# Altium integrated library Inductor - Power.IntLib: 264 symbols (part 1 of 5)
Pins are listed as number, name and electrical type; pins without a type are passive.

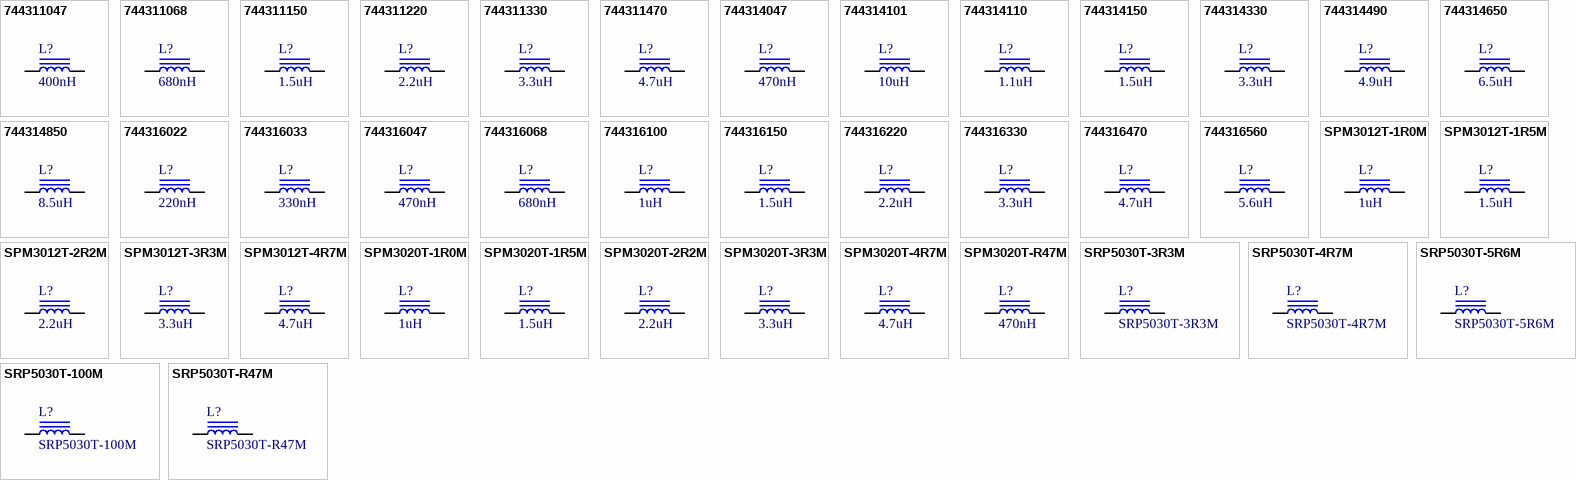
[diagram p0: symbols 744311047 to SRP5030T-R47M]

## 744311047
designator L?, comment 400nH
FIXED IND 400NH 19A 1.85 MOHM; Part Number: 744311047; Manufacturer: Wurth Electronics Inc; Type: Wirewound; Tolerance: 20%; Shielding: Shielded; Frequency - Self Resonant: 250MHz; Value: 400nH; PartId: 9686; Supplier 1: Digi-Key; Supplier Part Number 1: 732-3862-2-ND; ComponentLink1Description: Datasheet; ComponentLink1URL: http://katalog.we-online.de/pbs/datasheet/744311047.pdf; ComponentLink2Description: Digi-Key Listing; ComponentLink2URL: https://www.digikey.com/product-detail/en/744311047/732-3862-2-ND/3315070; Price: 2.85; Device Package: Nonstandard; Series: WE-HCI; Inductance: 400nH; Current Rating: 19A; DC Resistance (DCR): 1.85 mOhm; Q @ Freq: -; Operating Temperature: -40C ~ 150C
footprint WURTH WE-HCI 7040
pins: 1, 2

## 744311068
designator L?, comment 680nH
FIXED IND 680NH 17A 3.1 MOHM SMD; Part Number: 744311068; Manufacturer: Wurth Electronics Inc; Type: Wirewound; Tolerance: 20%; Shielding: Shielded; Frequency - Self Resonant: 105MHz; Value: 680nH; PartId: 9684; Supplier 1: Digi-Key; Supplier Part Number 1: 732-1149-2-ND; ComponentLink1Description: Datasheet; ComponentLink1URL: http://katalog.we-online.de/pbs/datasheet/744311068.pdf; ComponentLink2Description: Digi-Key Listing; ComponentLink2URL: https://www.digikey.com/product-detail/en/744311068/732-1149-2-ND/1638554; Price: 2.85; Device Package: Nonstandard; Series: WE-HCI; Inductance: 680nH; Current Rating: 17A; DC Resistance (DCR): 3.1 mOhm; Q @ Freq: -; Operating Temperature: -40C ~ 150C
footprint WURTH WE-HCI 7040
pins: 1, 2

## 744311150
designator L?, comment 1.5uH
FIXED IND 1.5UH 11A 6.6 MOHM SMD; Part Number: 744311150; Manufacturer: Wurth Electronics Inc; Type: Wirewound; Tolerance: 20%; Shielding: Shielded; Frequency - Self Resonant: 72MHz; Value: 1.5uH; PartId: 9687; Supplier 1: Digi-Key; Supplier Part Number 1: 732-1150-2-ND; ComponentLink1Description: Datasheet; ComponentLink1URL: http://katalog.we-online.de/pbs/datasheet/744311150.pdf; ComponentLink2Description: Digi-Key Listing; ComponentLink2URL: https://www.digikey.com/product-detail/en/744311150/732-1150-2-ND/1638555; Price: 2.85; Device Package: Nonstandard; Series: WE-HCI; Inductance: 1.5uH; Current Rating: 11A; DC Resistance (DCR): 6.6 mOhm; Q @ Freq: -; Operating Temperature: -40C ~ 150C
footprint WURTH WE-HCI 7040
pins: 1, 2

## 744311220
designator L?, comment 2.2uH
FIXED IND 2.2UH 9A 11.4 MOHM SMD; Part Number: 744311220; Manufacturer: Wurth Electronics Inc; Type: Wirewound; Tolerance: 20%; Shielding: Shielded; Frequency - Self Resonant: 52MHz; Value: 2.2uH; PartId: 9682; Supplier 1: Digi-Key; Supplier Part Number 1: 732-1151-2-ND; ComponentLink1Description: Datasheet; ComponentLink1URL: http://katalog.we-online.de/pbs/datasheet/744311220.pdf; ComponentLink2Description: Digi-Key Listing; ComponentLink2URL: https://www.digikey.com/product-detail/en/744311220/732-1151-2-ND/1638556; Price: 2.85; Device Package: Nonstandard; Series: WE-HCI; Inductance: 2.2uH; Current Rating: 9A; DC Resistance (DCR): 11.4 mOhm; Q @ Freq: -; Operating Temperature: -40C ~ 150C
footprint WURTH WE-HCI 7040
pins: 1, 2

## 744311330
designator L?, comment 3.3uH
FIXED IND 3.3UH 6.5A 17.2 MOHM; Part Number: 744311330; Manufacturer: Wurth Electronics Inc; Type: Wirewound; Tolerance: 20%; Shielding: Shielded; Frequency - Self Resonant: 43MHz; Value: 3.3uH; PartId: 9685; Supplier 1: Digi-Key; Supplier Part Number 1: 732-1152-2-ND; ComponentLink1Description: Datasheet; ComponentLink1URL: http://katalog.we-online.de/pbs/datasheet/744311330.pdf; ComponentLink2Description: Digi-Key Listing; ComponentLink2URL: https://www.digikey.com/product-detail/en/744311330/732-1152-2-ND/1638557; Price: 2.85; Device Package: Nonstandard; Series: WE-HCI; Inductance: 3.3uH; Current Rating: 6.5A; DC Resistance (DCR): 17.2 mOhm; Q @ Freq: -; Operating Temperature: -40C ~ 150C
footprint WURTH WE-HCI 7040
pins: 1, 2

## 744311470
designator L?, comment 4.7uH
FIXED IND 4.7UH 6A 19.5 MOHM SMD; Part Number: 744311470; Manufacturer: Wurth Electronics Inc; Type: Wirewound; Tolerance: 20%; Shielding: Shielded; Frequency - Self Resonant: 33MHz; Value: 4.7uH; PartId: 9683; Supplier 1: Digi-Key; Supplier Part Number 1: 732-1153-2-ND; ComponentLink1Description: Datasheet; ComponentLink1URL: http://katalog.we-online.de/pbs/datasheet/744311470.pdf; ComponentLink2Description: Digi-Key Listing; ComponentLink2URL: https://www.digikey.com/product-detail/en/744311470/732-1153-2-ND/1638558; Price: 2.85; Device Package: Nonstandard; Series: WE-HCI; Inductance: 4.7uH; Current Rating: 6A; DC Resistance (DCR): 19.5 mOhm; Q @ Freq: -; Operating Temperature: -40C ~ 150C
footprint WURTH WE-HCI 7040
pins: 1, 2

## 744314047
designator L?, comment 470nH
FIXED IND 470NH 18A 1.35 MOHM; Part Number: 744314047; Manufacturer: Wurth Electronics Inc; Type: Wirewound; Tolerance: 20%; Shielding: Shielded; Frequency - Self Resonant: 235MHz; Value: 470nH; PartId: 9680; Supplier 1: Digi-Key; Supplier Part Number 1: 732-1155-2-ND; ComponentLink1Description: Datasheet; ComponentLink1URL: http://katalog.we-online.de/pbs/datasheet/744314047.pdf; ComponentLink2Description: Digi-Key Listing; ComponentLink2URL: https://www.digikey.com/product-detail/en/744314047/732-1155-2-ND/1638560; Price: 2.85; Device Package: Nonstandard; Series: WE-HCI; Inductance: 470nH; Current Rating: 18A; DC Resistance (DCR): 1.35 mOhm; Q @ Freq: -; Operating Temperature: -40C ~ 150C
footprint WURTH WE-HCI 7050
pins: 1, 2

## 744314101
designator L?, comment 10uH
FIXED IND 10UH 3.5A 33 MOHM SMD; Part Number: 744314101; Manufacturer: Wurth Electronics Inc; Type: Wirewound; Tolerance: 20%; Shielding: Shielded; DC Resistance (DCR): 33 mOhm; Frequency - Self Resonant: 40MHz; Value: 10uH; PartId: 9676; Supplier 1: Digi-Key; Supplier Part Number 1: 732-2180-2-ND; ComponentLink1Description: Datasheet; ComponentLink1URL: http://katalog.we-online.de/pbs/datasheet/744314101.pdf; ComponentLink2Description: Digi-Key Listing; ComponentLink2URL: https://www.digikey.com/product-detail/en/744314101/732-2180-2-ND/2175596; Price: 2.85; Device Package: Nonstandard; Series: WE-HCI; Inductance: 10uH; Current Rating: 3.5A; Q @ Freq: -; Operating Temperature: -40C ~ 150C
footprint WURTH WE-HCI 7050
pins: 1, 2

## 744314110
designator L?, comment 1.1uH
FIXED IND 1.1UH 15A 3.15 MOHM; Part Number: 744314110; Manufacturer: Wurth Electronics Inc; Type: Wirewound; Tolerance: 20%; Shielding: Shielded; Frequency - Self Resonant: 135MHz; Value: 1.1uH; PartId: 9677; Supplier 1: Digi-Key; Supplier Part Number 1: 732-1157-2-ND; ComponentLink1Description: Datasheet; ComponentLink1URL: http://katalog.we-online.de/pbs/datasheet/744314110.pdf; ComponentLink2Description: Digi-Key Listing; ComponentLink2URL: https://www.digikey.com/product-detail/en/744314110/732-1157-2-ND/1638562; Price: 2.85; Device Package: Nonstandard; Series: WE-HCI; Inductance: 1.1uH; Current Rating: 15A; DC Resistance (DCR): 3.15 mOhm; Q @ Freq: -; Operating Temperature: -40C ~ 150C
footprint WURTH WE-HCI 7050
pins: 1, 2

## 744314150
designator L?, comment 1.5uH
FIXED IND 1.5UH 13A 4.3 MOHM SMD; Part Number: 744314150; Manufacturer: Wurth Electronics Inc; Type: Wirewound; Tolerance: 20%; Shielding: Shielded; Frequency - Self Resonant: 110MHz; Value: 1.5uH; PartId: 9678; Supplier 1: Digi-Key; Supplier Part Number 1: 732-1158-2-ND; ComponentLink1Description: Datasheet; ComponentLink1URL: http://katalog.we-online.de/pbs/datasheet/744314150.pdf; ComponentLink2Description: Digi-Key Listing; ComponentLink2URL: https://www.digikey.com/product-detail/en/744314150/732-1158-2-ND/1638563; Price: 2.85; Device Package: Nonstandard; Series: WE-HCI; Inductance: 1.5uH; Current Rating: 13A; DC Resistance (DCR): 4.3 mOhm; Q @ Freq: -; Operating Temperature: -40C ~ 150C
footprint WURTH WE-HCI 7050
pins: 1, 2

## 744314330
designator L?, comment 3.3uH
FIXED IND 3.3UH 9A 9 MOHM SMD; Part Number: 744314330; Manufacturer: Wurth Electronics Inc; Type: Wirewound; Tolerance: 20%; Shielding: Shielded; DC Resistance (DCR): 9 mOhm; Frequency - Self Resonant: 65MHz; Value: 3.3uH; PartId: 9675; Supplier 1: Digi-Key; Supplier Part Number 1: 732-1160-2-ND; ComponentLink1Description: Datasheet; ComponentLink1URL: http://katalog.we-online.de/pbs/datasheet/744314330.pdf; ComponentLink2Description: Digi-Key Listing; ComponentLink2URL: https://www.digikey.com/product-detail/en/744314330/732-1160-2-ND/1638565; Price: 2.85; Device Package: Nonstandard; Series: WE-HCI; Inductance: 3.3uH; Current Rating: 9A; Q @ Freq: -; Operating Temperature: -40C ~ 150C
footprint WURTH WE-HCI 7050
pins: 1, 2

## 744314490
designator L?, comment 4.9uH
FIXED IND 4.9UH 6.5A 14.5 MOHM; Part Number: 744314490; Manufacturer: Wurth Electronics Inc; Type: Wirewound; Tolerance: 20%; Shielding: Shielded; Frequency - Self Resonant: 56MHz; Value: 4.9uH; PartId: 9681; Supplier 1: Digi-Key; Supplier Part Number 1: 732-1161-2-ND; ComponentLink1Description: Datasheet; ComponentLink1URL: http://katalog.we-online.de/pbs/datasheet/744314490.pdf; ComponentLink2Description: Digi-Key Listing; ComponentLink2URL: https://www.digikey.com/product-detail/en/744314490/732-1161-2-ND/1638566; Price: 2.85; Device Package: Nonstandard; Series: WE-HCI; Inductance: 4.9uH; Current Rating: 6.5A; DC Resistance (DCR): 14.5 mOhm; Q @ Freq: -; Operating Temperature: -40C ~ 150C
footprint WURTH WE-HCI 7050
pins: 1, 2

## 744314650
designator L?, comment 6.5uH
FIXED IND 6.5UH 6A 21.5 MOHM SMD; Part Number: 744314650; Manufacturer: Wurth Electronics Inc; Type: Wirewound; Tolerance: 20%; Shielding: Shielded; Frequency - Self Resonant: 50MHz; Value: 6.5uH; PartId: 9674; Supplier 1: Digi-Key; Supplier Part Number 1: 732-1162-2-ND; ComponentLink1Description: Datasheet; ComponentLink1URL: http://katalog.we-online.de/pbs/datasheet/744314650.pdf; ComponentLink2Description: Digi-Key Listing; ComponentLink2URL: https://www.digikey.com/product-detail/en/744314650/732-1162-2-ND/1638567; Price: 2.85; Device Package: Nonstandard; Series: WE-HCI; Inductance: 6.5uH; Current Rating: 6A; DC Resistance (DCR): 21.5 mOhm; Q @ Freq: -; Operating Temperature: -40C ~ 150C
footprint WURTH WE-HCI 7050
pins: 1, 2

## 744314850
designator L?, comment 8.5uH
FIXED IND 8.5UH 4A 32.5 MOHM SMD; Part Number: 744314850; Manufacturer: Wurth Electronics Inc; Type: Wirewound; Tolerance: 20%; Shielding: Shielded; Frequency - Self Resonant: 44MHz; Value: 8.5uH; PartId: 9679; Supplier 1: Digi-Key; Supplier Part Number 1: 732-2182-2-ND; ComponentLink1Description: Datasheet; ComponentLink1URL: http://katalog.we-online.de/pbs/datasheet/744314850.pdf; ComponentLink2Description: Digi-Key Listing; ComponentLink2URL: https://www.digikey.com/product-detail/en/744314850/732-2182-2-ND/2175598; Price: 2.85; Device Package: Nonstandard; Series: WE-HCI; Inductance: 8.5uH; Current Rating: 4A; DC Resistance (DCR): 32.5 mOhm; Q @ Freq: -; Operating Temperature: -40C ~ 150C
footprint WURTH WE-HCI 7050
pins: 1, 2

## 744316022
designator L?, comment 220nH
FIXED IND 220NH 20A 1.25 MOHM; Part Number: 744316022; Manufacturer: Wurth Electronics Inc; Type: Wirewound; Tolerance: 20%; Shielding: Shielded; Frequency - Self Resonant: 507MHz; Value: 220nH; PartId: 9670; Supplier 1: Digi-Key; Supplier Part Number 1: 732-6171-2-ND; ComponentLink1Description: Datasheet; ComponentLink1URL: http://katalog.we-online.de/pbs/datasheet/744316022.pdf; ComponentLink2Description: Digi-Key Listing; ComponentLink2URL: https://www.digikey.com/product-detail/en/744316022/732-6171-2-ND/5051004; Price: 1.5; Device Package: 2-SMD; Series: WE-HCI; Inductance: 220nH; Current Rating: 20A; DC Resistance (DCR): 1.25 mOhm; Q @ Freq: -; Operating Temperature: -40C ~ 150C
footprint WURTH 5040
pins: 1, 2

## 744316033
designator L?, comment 330nH
FIXED IND 330NH 18.5A 1.75 MOHM; Part Number: 744316033; Manufacturer: Wurth Electronics Inc; Type: Wirewound; Tolerance: 20%; Shielding: Shielded; Frequency - Self Resonant: 402MHz; Value: 330nH; PartId: 9671; Supplier 1: Digi-Key; Supplier Part Number 1: 732-6173-2-ND; ComponentLink1Description: Datasheet; ComponentLink1URL: http://katalog.we-online.de/pbs/datasheet/744316033.pdf; ComponentLink2Description: Digi-Key Listing; ComponentLink2URL: https://www.digikey.com/product-detail/en/744316033/732-6173-2-ND/5051006; Price: 1.5; Device Package: 2-SMD; Series: WE-HCI; Inductance: 330nH; Current Rating: 18.5A; DC Resistance (DCR): 1.75 mOhm; Q @ Freq: -; Operating Temperature: -40C ~ 150C
footprint WURTH 5040
pins: 1, 2

## 744316047
designator L?, comment 470nH
FIXED IND 470NH 15A 2.75 MOHM; Part Number: 744316047; Manufacturer: Wurth Electronics Inc; Type: Wirewound; Tolerance: 20%; Shielding: Shielded; Frequency - Self Resonant: 280MHz; Value: 470nH; PartId: 9672; Supplier 1: Digi-Key; Supplier Part Number 1: 732-6174-2-ND; ComponentLink1Description: Datasheet; ComponentLink1URL: http://katalog.we-online.de/pbs/datasheet/744316047.pdf; ComponentLink2Description: Digi-Key Listing; ComponentLink2URL: https://www.digikey.com/product-detail/en/744316047/732-6174-2-ND/5051007; Price: 1.5; Device Package: 2-SMD; Series: WE-HCI; Inductance: 470nH; Current Rating: 15A; DC Resistance (DCR): 2.75 mOhm; Q @ Freq: -; Operating Temperature: -40C ~ 150C
footprint WURTH 5040
pins: 1, 2

## 744316068
designator L?, comment 680nH
FIXED IND 680NH 12.75A 4 MOHM; Part Number: 744316068; Manufacturer: Wurth Electronics Inc; Type: Wirewound; Tolerance: 20%; Shielding: Shielded; DC Resistance (DCR): 4 mOhm; Frequency - Self Resonant: 253MHz; Value: 680nH; PartId: 9673; Supplier 1: Digi-Key; Supplier Part Number 1: 732-6175-2-ND; ComponentLink1Description: Datasheet; ComponentLink1URL: http://katalog.we-online.de/pbs/datasheet/744316068.pdf; ComponentLink2Description: Digi-Key Listing; ComponentLink2URL: https://www.digikey.com/product-detail/en/744316068/732-6175-2-ND/5051008; Price: 1.5; Device Package: 2-SMD; Series: WE-HCI; Inductance: 680nH; Current Rating: 12.75A; Q @ Freq: -; Operating Temperature: -40C ~ 150C
footprint WURTH 5040
pins: 1, 2

## 744316100
designator L?, comment 1uH
FIXED IND 1UH 11.5A 4.75 MOHM; Part Number: 744316100; Manufacturer: Wurth Electronics Inc; Type: Wirewound; Tolerance: 20%; Shielding: Shielded; Frequency - Self Resonant: 158MHz; Value: 1uH; PartId: 9666; Supplier 1: Digi-Key; Supplier Part Number 1: 732-6176-2-ND; ComponentLink1Description: Datasheet; ComponentLink1URL: http://katalog.we-online.de/pbs/datasheet/744316100.pdf; ComponentLink2Description: Digi-Key Listing; ComponentLink2URL: https://www.digikey.com/product-detail/en/744316100/732-6176-2-ND/5051009; Price: 1.5; Device Package: 2-SMD; Series: WE-HCI; Inductance: 1uH; Current Rating: 11.5A; DC Resistance (DCR): 4.75 mOhm; Q @ Freq: -; Operating Temperature: -40C ~ 150C
footprint WURTH 5040
pins: 1, 2

## 744316150
designator L?, comment 1.5uH
FIXED IND 1.5UH 9A 8.15 MOHM SMD; Part Number: 744316150; Manufacturer: Wurth Electronics Inc; Type: Wirewound; Tolerance: 20%; Shielding: Shielded; Frequency - Self Resonant: 110MHz; Value: 1.5uH; PartId: 9667; Supplier 1: Digi-Key; Supplier Part Number 1: 732-6178-2-ND; ComponentLink1Description: Datasheet; ComponentLink1URL: http://katalog.we-online.de/pbs/datasheet/744316150.pdf; ComponentLink2Description: Digi-Key Listing; ComponentLink2URL: https://www.digikey.com/product-detail/en/744316150/732-6178-2-ND/5051011; Price: 1.5; Device Package: 2-SMD; Series: WE-HCI; Inductance: 1.5uH; Current Rating: 9A; DC Resistance (DCR): 8.15 mOhm; Q @ Freq: -; Operating Temperature: -40C ~ 150C
footprint WURTH 5040
pins: 1, 2

## 744316220
designator L?, comment 2.2uH
FIXED IND 2.2UH 7.5A 11.3 MOHM; Part Number: 744316220; Manufacturer: Wurth Electronics Inc; Type: Wirewound; Tolerance: 20%; Shielding: Shielded; Frequency - Self Resonant: 108MHz; Value: 2.2uH; PartId: 9664; Supplier 1: Digi-Key; Supplier Part Number 1: 732-6179-2-ND; ComponentLink1Description: Datasheet; ComponentLink1URL: http://katalog.we-online.de/pbs/datasheet/744316220.pdf; ComponentLink2Description: Digi-Key Listing; ComponentLink2URL: https://www.digikey.com/product-detail/en/744316220/732-6179-2-ND/5051012; Price: 1.5; Device Package: 2-SMD; Series: WE-HCI; Inductance: 2.2uH; Current Rating: 7.5A; DC Resistance (DCR): 11.3 mOhm; Q @ Freq: -; Operating Temperature: -40C ~ 150C
footprint WURTH 5040
pins: 1, 2

## 744316330
designator L?, comment 3.3uH
FIXED IND 3.3UH 5.75A 18.5 MOHM; Part Number: 744316330; Manufacturer: Wurth Electronics Inc; Type: Wirewound; Tolerance: 20%; Shielding: Shielded; Frequency - Self Resonant: 66MHz; Value: 3.3uH; PartId: 9668; Supplier 1: Digi-Key; Supplier Part Number 1: 732-6180-2-ND; ComponentLink1Description: Datasheet; ComponentLink1URL: http://katalog.we-online.de/pbs/datasheet/744316330.pdf; ComponentLink2Description: Digi-Key Listing; ComponentLink2URL: https://www.digikey.com/product-detail/en/744316330/732-6180-2-ND/5051013; Price: 1.5; Device Package: 2-SMD; Series: WE-HCI; Inductance: 3.3uH; Current Rating: 5.75A; DC Resistance (DCR): 18.5 mOhm; Q @ Freq: -; Operating Temperature: -40C ~ 150C
footprint WURTH 5040
pins: 1, 2

## 744316470
designator L?, comment 4.7uH
FIXED IND 4.7UH 4.6A 24.5 MOHM; Part Number: 744316470; Manufacturer: Wurth Electronics Inc; Type: Wirewound; Tolerance: 20%; Shielding: Shielded; DC Resistance (DCR): 24.5 mOhm Max; Frequency - Self Resonant: 57MHz; Value: 4.7uH; PartId: 9665; Supplier 1: Digi-Key; Supplier Part Number 1: 732-6182-2-ND; ComponentLink1Description: Datasheet; ComponentLink1URL: http://katalog.we-online.de/pbs/datasheet/744316470.pdf; ComponentLink2Description: Digi-Key Listing; ComponentLink2URL: https://www.digikey.com/product-detail/en/744316470/732-6182-2-ND/5051015; Price: 1.5; Device Package: 2-SMD; Series: WE-HCI; Inductance: 4.7uH; Current Rating: 4.6A; Q @ Freq: -; Operating Temperature: -40C ~ 150C
footprint WURTH 5040
pins: 1, 2

## 744316560
designator L?, comment 5.6uH
FIXED IND 5.6UH 4.5A 28.5 MOHM; Part Number: 744316560; Manufacturer: Wurth Electronics Inc; Type: Wirewound; Tolerance: 20%; Shielding: Shielded; Frequency - Self Resonant: 48MHz; Value: 5.6uH; PartId: 9669; Supplier 1: Digi-Key; Supplier Part Number 1: 732-6183-2-ND; ComponentLink1Description: Datasheet; ComponentLink1URL: http://katalog.we-online.de/pbs/datasheet/744316560.pdf; ComponentLink2Description: Digi-Key Listing; ComponentLink2URL: https://www.digikey.com/product-detail/en/744316560/732-6183-2-ND/5051016; Price: 1.5; Device Package: 2-SMD; Series: WE-HCI; Inductance: 5.6uH; Current Rating: 4.5A; DC Resistance (DCR): 28.5 mOhm; Q @ Freq: -; Operating Temperature: -40C ~ 150C
footprint WURTH 5040
pins: 1, 2

## SPM3012T-1R0M
designator L?, comment 1uH
FIXED IND 1UH 2.8A 65 MOHM SMD; Part Number: SPM3012T-1R0M; Manufacturer: TDK Corporation; Type: Wirewound; Tolerance: 20%; Shielding: Shielded; DC Resistance (DCR): 65 mOhm Max; Value: 1uH; PartId: 9590; Supplier 1: Digi-Key; Supplier Part Number 1: 445-8723-2-ND; ComponentLink1Description: Datasheet; ComponentLink1URL: https://product.tdk.com/info/en/catalog/datasheets/inductor_commercial_power_spm3012_en.pdf; ComponentLink2Description: Digi-Key Listing; ComponentLink2URL: https://www.digikey.com/product-detail/en/SPM3012T-1R0M/445-8723-2-ND/3083271; Price: 0.616; Device Package: Nonstandard; Series: SPM; Inductance: 1uH; Current Rating: 2.8A; Q @ Freq: -; Frequency - Self Resonant: -; Operating Temperature: -40C ~ 125C
footprint TDK SPM3012
pins: 1, 2

## SPM3012T-1R5M
designator L?, comment 1.5uH
FIXED IND 1.5UH 2.5A 90 MOHM SMD; Part Number: SPM3012T-1R5M; Manufacturer: TDK Corporation; Type: Wirewound; Tolerance: 20%; Shielding: Shielded; DC Resistance (DCR): 90 mOhm Max; Value: 1.5uH; PartId: 9593; Supplier 1: Digi-Key; Supplier Part Number 1: 445-8724-2-ND; ComponentLink1Description: Datasheet; ComponentLink1URL: https://product.tdk.com/info/en/catalog/datasheets/inductor_commercial_power_spm3012_en.pdf; ComponentLink2Description: Digi-Key Listing; ComponentLink2URL: https://www.digikey.com/product-detail/en/SPM3012T-1R5M/445-8724-2-ND/3083272; Price: 0.616; Device Package: Nonstandard; Series: SPM; Inductance: 1.5uH; Current Rating: 2.5A; Q @ Freq: -; Frequency - Self Resonant: -; Operating Temperature: -40C ~ 125C
footprint TDK SPM3012
pins: 1, 2

## SPM3012T-2R2M
designator L?, comment 2.2uH
FIXED IND 2.2UH 2.2A 115 MOHM; Part Number: SPM3012T-2R2M; Manufacturer: TDK Corporation; Type: Wirewound; Tolerance: 20%; Shielding: Shielded; DC Resistance (DCR): 115 mOhm Max; Value: 2.2uH; PartId: 9591; Supplier 1: Digi-Key; Supplier Part Number 1: 445-8725-2-ND; ComponentLink1Description: Datasheet; ComponentLink1URL: https://product.tdk.com/info/en/catalog/datasheets/inductor_commercial_power_spm3012_en.pdf; ComponentLink2Description: Digi-Key Listing; ComponentLink2URL: https://www.digikey.com/product-detail/en/SPM3012T-2R2M/445-8725-2-ND/3083273; Price: 0.616; Device Package: Nonstandard; Series: SPM; Inductance: 2.2uH; Current Rating: 2.2A; Q @ Freq: -; Frequency - Self Resonant: -; Operating Temperature: -40C ~ 125C
footprint TDK SPM3012
pins: 1, 2

## SPM3012T-3R3M
designator L?, comment 3.3uH
FIXED IND 3.3UH 1.5A 210 MOHM; Part Number: SPM3012T-3R3M; Manufacturer: TDK Corporation; Type: Wirewound; Tolerance: 20%; Shielding: Shielded; DC Resistance (DCR): 210 mOhm Max; Value: 3.3uH; PartId: 9594; Supplier 1: Digi-Key; Supplier Part Number 1: 445-8726-2-ND; ComponentLink1Description: Datasheet; ComponentLink1URL: https://product.tdk.com/info/en/catalog/datasheets/inductor_commercial_power_spm3012_en.pdf; ComponentLink2Description: Digi-Key Listing; ComponentLink2URL: https://www.digikey.com/product-detail/en/SPM3012T-3R3M/445-8726-2-ND/3083274; Price: 0.616; Device Package: Nonstandard; Series: SPM; Inductance: 3.3uH; Current Rating: 1.5A; Q @ Freq: -; Frequency - Self Resonant: -; Operating Temperature: -40C ~ 125C
footprint TDK SPM3012
pins: 1, 2

## SPM3012T-4R7M
designator L?, comment 4.7uH
FIXED IND 4.7UH 1.3A 270 MOHM; Part Number: SPM3012T-4R7M; Manufacturer: TDK Corporation; Type: Wirewound; Tolerance: 20%; Shielding: Shielded; DC Resistance (DCR): 270 mOhm Max; Value: 4.7uH; PartId: 9592; Supplier 1: Digi-Key; Supplier Part Number 1: 445-8932-2-ND; ComponentLink1Description: Datasheet; ComponentLink1URL: https://product.tdk.com/info/en/catalog/datasheets/inductor_commercial_power_spm3012_en.pdf; ComponentLink2Description: Digi-Key Listing; ComponentLink2URL: https://www.digikey.com/product-detail/en/SPM3012T-4R7M/445-8932-2-ND/3641271; Price: 0.616; Device Package: Nonstandard; Series: SPM; Inductance: 4.7uH; Current Rating: 1.3A; Q @ Freq: -; Frequency - Self Resonant: -; Operating Temperature: -40C ~ 125C
footprint TDK SPM3012
pins: 1, 2

## SPM3020T-1R0M
designator L?, comment 1uH
FIXED IND 1UH 3.8A 42.2 MOHM SMD; Part Number: SPM3020T-1R0M; Manufacturer: TDK Corporation; Type: Wirewound; Tolerance: 20%; Shielding: Shielded; DC Resistance (DCR): 42.2 mOhm Max; Value: 1uH; PartId: 9586; Supplier 1: Digi-Key; Supplier Part Number 1: 445-172358-2-ND; ComponentLink1Description: Datasheet; ComponentLink1URL: https://product.tdk.com/info/en/catalog/datasheets/inductor_commercial_power_spm3020_en.pdf; ComponentLink2Description: Digi-Key Listing; ComponentLink2URL: https://www.digikey.com/product-detail/en/SPM3020T-1R0M/445-172358-2-ND/4917939; Price: 0.6025; Device Package: Nonstandard; Series: SPM; Inductance: 1uH; Current Rating: 3.8A; Q @ Freq: -; Frequency - Self Resonant: -; Operating Temperature: -40C ~ 125C
footprint TDK SPM3020-LR
pins: 1, 2

## SPM3020T-1R5M
designator L?, comment 1.5uH
FIXED IND 1.5UH 3.4A 64.8 MOHM; Part Number: SPM3020T-1R5M; Manufacturer: TDK Corporation; Type: Wirewound; Tolerance: 20%; Shielding: Shielded; DC Resistance (DCR): 64.8 mOhm Max; Value: 1.5uH; PartId: 9587; Supplier 1: Digi-Key; Supplier Part Number 1: 445-172359-2-ND; ComponentLink1Description: Datasheet; ComponentLink1URL: https://product.tdk.com/info/en/catalog/datasheets/inductor_commercial_power_spm3020_en.pdf; ComponentLink2Description: Digi-Key Listing; ComponentLink2URL: https://www.digikey.com/product-detail/en/SPM3020T-1R5M/445-172359-2-ND/4917940; Price: 0.6025; Device Package: Nonstandard; Series: SPM; Inductance: 1.5uH; Current Rating: 3.4A; Q @ Freq: -; Frequency - Self Resonant: -; Operating Temperature: -40C ~ 125C
footprint TDK SPM3020-LR
pins: 1, 2

## SPM3020T-2R2M
designator L?, comment 2.2uH
FIXED IND 2.2UH 2.8A 90 MOHM SMD; Part Number: SPM3020T-2R2M; Manufacturer: TDK Corporation; Type: Wirewound; Tolerance: 20%; Shielding: Shielded; DC Resistance (DCR): 90 mOhm Max; Value: 2.2uH; PartId: 9584; Supplier 1: Digi-Key; Supplier Part Number 1: 445-172360-2-ND; ComponentLink1Description: Datasheet; ComponentLink1URL: https://product.tdk.com/info/en/catalog/datasheets/inductor_commercial_power_spm3020_en.pdf; ComponentLink2Description: Digi-Key Listing; ComponentLink2URL: https://www.digikey.com/product-detail/en/SPM3020T-2R2M/445-172360-2-ND/4917941; Price: 0.6025; Device Package: Nonstandard; Series: SPM; Inductance: 2.2uH; Current Rating: 2.8A; Q @ Freq: -; Frequency - Self Resonant: -; Operating Temperature: -40C ~ 125C
footprint TDK SPM3020-LR
pins: 1, 2

## SPM3020T-3R3M
designator L?, comment 3.3uH
FIXED IND 3.3UH 2.2A 127.4 MOHM; Part Number: SPM3020T-3R3M; Manufacturer: TDK Corporation; Type: Wirewound; Tolerance: 20%; Shielding: Shielded; DC Resistance (DCR): 127.4 mOhm Max; Value: 3.3uH; PartId: 9588; Supplier 1: Digi-Key; Supplier Part Number 1: 445-172361-2-ND; ComponentLink1Description: Datasheet; ComponentLink1URL: https://product.tdk.com/info/en/catalog/datasheets/inductor_commercial_power_spm3020_en.pdf; ComponentLink2Description: Digi-Key Listing; ComponentLink2URL: https://www.digikey.com/product-detail/en/SPM3020T-3R3M/445-172361-2-ND/4917942; Price: 0.6025; Device Package: Nonstandard; Series: SPM; Inductance: 3.3uH; Current Rating: 2.2A; Q @ Freq: -; Frequency - Self Resonant: -; Operating Temperature: -40C ~ 125C
footprint TDK SPM3020-LR
pins: 1, 2

## SPM3020T-4R7M
designator L?, comment 4.7uH
FIXED IND 4.7UH 1.9A 173 MOHM; Part Number: SPM3020T-4R7M; Manufacturer: TDK Corporation; Type: Wirewound; Tolerance: 20%; Shielding: Shielded; DC Resistance (DCR): 173 mOhm Max; Value: 4.7uH; PartId: 9585; Supplier 1: Digi-Key; Supplier Part Number 1: 445-172362-2-ND; ComponentLink1Description: Datasheet; ComponentLink1URL: https://product.tdk.com/info/en/catalog/datasheets/inductor_commercial_power_spm3020_en.pdf; ComponentLink2Description: Digi-Key Listing; ComponentLink2URL: https://www.digikey.com/product-detail/en/SPM3020T-4R7M/445-172362-2-ND/4917943; Price: 0.6025; Device Package: Nonstandard; Series: SPM; Inductance: 4.7uH; Current Rating: 1.9A; Q @ Freq: -; Frequency - Self Resonant: -; Operating Temperature: -40C ~ 125C
footprint TDK SPM3020-LR
pins: 1, 2

## SPM3020T-R47M
designator L?, comment 470nH
FIXED IND 470NH 4.8A 28.9 MOHM; Part Number: SPM3020T-R47M; Manufacturer: TDK Corporation; Type: Wirewound; Tolerance: 20%; Shielding: Shielded; DC Resistance (DCR): 28.9 mOhm Max; Value: 470nH; PartId: 9589; Supplier 1: Digi-Key; Supplier Part Number 1: 445-172357-2-ND; ComponentLink1Description: Datasheet; ComponentLink1URL: https://product.tdk.com/info/en/catalog/datasheets/inductor_commercial_power_spm3020_en.pdf; ComponentLink2Description: Digi-Key Listing; ComponentLink2URL: https://www.digikey.com/product-detail/en/SPM3020T-R47M/445-172357-2-ND/4917944; Price: 0.6025; Device Package: Nonstandard; Series: SPM; Inductance: 470nH; Current Rating: 4.8A; Q @ Freq: -; Frequency - Self Resonant: -; Operating Temperature: -40C ~ 125C
footprint TDK SPM3020-LR
pins: 1, 2

## SRP5030T-3R3M
designator L?
FIXED IND 3.3UH 5A 38 MOHM SMD; Manufacturer: Bourns Inc.; Type: Wirewound; Material - Core: Powdered Iron; Tolerance: 20%; Current - Saturation: 8A; Shielding: Shielded; DC Resistance (DCR): 38 mOhm Max; Value: 3.3uH; Part Number: SRP5030T-3R3M; PartId: 16473; Supplier 1: Digi-Key; Supplier Part Number 1: SRP5030T-3R3MTR-ND; ComponentLink1Description: Datasheet; ComponentLink1URL: http://www.bourns.com/docs/Product-Datasheets/SRP5030T.pdf; ComponentLink2Description: Digi-Key Listing; ComponentLink2URL: https://www.digikey.com/product-detail/en/bourns-inc/SRP5030T-3R3M/SRP5030T-3R3MTR-ND/3986083; Price: 0.5453; Device Package: Nonstandard; Series: SRP5030T; Inductance: 3.3uH; Current Rating: 5A; Operating Temperature: -40C ~ 125C
footprint BOURNS SRP5030T
pins: 1, 2

## SRP5030T-4R7M
designator L?
FIXED IND 4.7UH 4.6A 53 MOHM SMD; Manufacturer: Bourns Inc.; Type: Wirewound; Material - Core: Powdered Iron; Tolerance: 20%; Current - Saturation: 6A; Shielding: Shielded; DC Resistance (DCR): 53 mOhm Max; Value: 4.7uH; Part Number: SRP5030T-4R7M; PartId: 16474; Supplier 1: Digi-Key; Supplier Part Number 1: SRP5030T-4R7MTR-ND; ComponentLink1Description: Datasheet; ComponentLink1URL: http://www.bourns.com/docs/Product-Datasheets/SRP5030T.pdf; ComponentLink2Description: Digi-Key Listing; ComponentLink2URL: https://www.digikey.com/product-detail/en/bourns-inc/SRP5030T-4R7M/SRP5030T-4R7MTR-ND/3986084; Price: 0.5453; Device Package: Nonstandard; Series: SRP5030T; Inductance: 4.7uH; Current Rating: 4.6A; Operating Temperature: -40C ~ 125C
footprint BOURNS SRP5030T
pins: 1, 2

## SRP5030T-5R6M
designator L?
FIXED IND 5.6UH 4.25A 63 MOHM; Manufacturer: Bourns Inc.; Type: Wirewound; Material - Core: Powdered Iron; Tolerance: 20%; Current - Saturation: 4.5A; Shielding: Shielded; DC Resistance (DCR): 63 mOhm Max; Value: 5.6uH; Part Number: SRP5030T-5R6M; PartId: 16475; Supplier 1: Digi-Key; Supplier Part Number 1: SRP5030T-5R6MTR-ND; ComponentLink1Description: Datasheet; ComponentLink1URL: http://www.bourns.com/docs/Product-Datasheets/SRP5030T.pdf; ComponentLink2Description: Digi-Key Listing; ComponentLink2URL: https://www.digikey.com/product-detail/en/bourns-inc/SRP5030T-5R6M/SRP5030T-5R6MTR-ND/3986085; Price: 0.5453; Device Package: Nonstandard; Series: SRP5030T; Inductance: 5.6uH; Current Rating: 4.25A; Operating Temperature: -40C ~ 125C
footprint BOURNS SRP5030T
pins: 1, 2

## SRP5030T-100M
designator L?
FIXED IND 10UH 2.75A 128 MOHM; Manufacturer: Bourns Inc.; Type: Wirewound; Material - Core: Powdered Iron; Tolerance: 20%; Current - Saturation: 3.5A; Shielding: Shielded; DC Resistance (DCR): 128 mOhm Max; Value: 10uH; Part Number: SRP5030T-100M; PartId: 16472; Supplier 1: Digi-Key; Supplier Part Number 1: SRP5030T-100MTR-ND; ComponentLink1Description: Datasheet; ComponentLink1URL: http://www.bourns.com/docs/Product-Datasheets/SRP5030T.pdf; ComponentLink2Description: Digi-Key Listing; ComponentLink2URL: https://www.digikey.com/product-detail/en/bourns-inc/SRP5030T-100M/SRP5030T-100MTR-ND/3986087; Price: 0.5453; Device Package: Nonstandard; Series: SRP5030T; Inductance: 10uH; Current Rating: 2.75A; Operating Temperature: -40C ~ 125C
footprint BOURNS SRP5030T
pins: 1, 2

## SRP5030T-R47M
designator L?
FIXED IND 470NH 12A 7.4 MOHM SMD; Manufacturer: Bourns Inc.; Type: Wirewound; Material - Core: Powdered Iron; Tolerance: 20%; Current - Saturation: 16A; Shielding: Shielded; DC Resistance (DCR): 7.4 mOhm Max; Value: 470nH; Part Number: SRP5030T-R47M; PartId: 16476; Supplier 1: Digi-Key; Supplier Part Number 1: SRP5030T-R47MTR-ND; ComponentLink1Description: Datasheet; ComponentLink1URL: http://www.bourns.com/docs/Product-Datasheets/SRP5030T.pdf; ComponentLink2Description: Digi-Key Listing; ComponentLink2URL: https://www.digikey.com/product-detail/en/bourns-inc/SRP5030T-R47M/SRP5030T-R47MTR-ND/3986077; Price: 0.5453; Device Package: Nonstandard; Series: SRP5030T; Inductance: 470nH; Current Rating: 12A; Operating Temperature: -40C ~ 125C
footprint BOURNS SRP5030T
pins: 1, 2

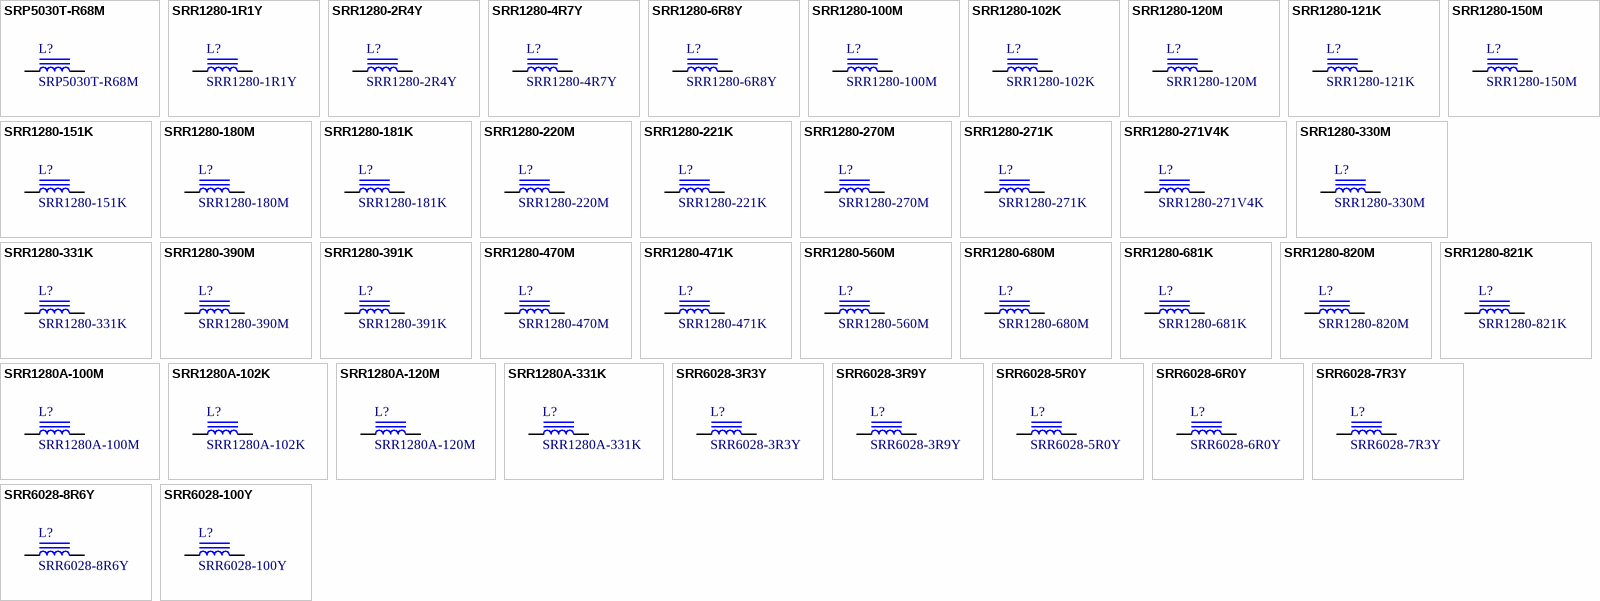
[diagram p1: symbols SRP5030T-R68M to SRR6028-100Y]

## SRP5030T-R68M
designator L?
FIXED IND 680NH 8.5A 12 MOHM SMD; Manufacturer: Bourns Inc.; Type: Wirewound; Material - Core: Powdered Iron; Tolerance: 20%; Current - Saturation: 14A; Shielding: Shielded; DC Resistance (DCR): 12 mOhm Max; Value: 680nH; Part Number: SRP5030T-R68M; PartId: 16477; Supplier 1: Digi-Key; Supplier Part Number 1: SRP5030T-R68MTR-ND; ComponentLink1Description: Datasheet; ComponentLink1URL: http://www.bourns.com/docs/Product-Datasheets/SRP5030T.pdf; ComponentLink2Description: Digi-Key Listing; ComponentLink2URL: https://www.digikey.com/product-detail/en/bourns-inc/SRP5030T-R68M/SRP5030T-R68MTR-ND/3986078; Price: 0.5453; Device Package: Nonstandard; Series: SRP5030T; Inductance: 680nH; Current Rating: 8.5A; Operating Temperature: -40C ~ 125C
footprint BOURNS SRP5030T
pins: 1, 2

## SRR1280-1R1Y
designator L?
FIXED IND 1.1UH 10.2A 6.5 MOHM; Manufacturer: Bourns Inc.; Type: Wirewound; Material - Core: Ferrite; Tolerance: 30%; Current - Saturation: 14A; Shielding: Shielded; DC Resistance (DCR): 6.5 mOhm Max; Q @ Freq: 26 @ 7.96MHz; Frequency - Self Resonant: 85MHz; Value: 1.1uH; Part Number: SRR1280-1R1Y; PartId: 15728; Supplier 1: Digi-Key; Supplier Part Number 1: SRR1280-1R1YTR-ND; ComponentLink1Description: Datasheet; ComponentLink1URL: http://www.bourns.com/docs/Product-Datasheets/SRR1280.pdf; ComponentLink2Description: Digi-Key Listing; ComponentLink2URL: https://www.digikey.com/product-detail/en/bourns-inc/SRR1280-1R1Y/SRR1280-1R1YTR-ND/2562406; Price: 0.7266; Device Package: Nonstandard; Series: SRR1280; Inductance: 1.1uH; Current Rating: 10.2A; Operating Temperature: -40C ~ 125C
footprint BOURNS SRR1280
pins: 1, 2

## SRR1280-2R4Y
designator L?
FIXED IND 2.4UH 9.2A 10 MOHM SMD; Manufacturer: Bourns Inc.; Type: Wirewound; Material - Core: Ferrite; Tolerance: 30%; Current - Saturation: 10.5A; Shielding: Shielded; DC Resistance (DCR): 10 mOhm Max; Q @ Freq: 20 @ 7.96MHz; Frequency - Self Resonant: 45MHz; Value: 2.4uH; Part Number: SRR1280-2R4Y; PartId: 15729; Supplier 1: Digi-Key; Supplier Part Number 1: SRR1280-2R4YTR-ND; ComponentLink1Description: Datasheet; ComponentLink1URL: http://www.bourns.com/docs/Product-Datasheets/SRR1280.pdf; ComponentLink2Description: Digi-Key Listing; ComponentLink2URL: https://www.digikey.com/product-detail/en/bourns-inc/SRR1280-2R4Y/SRR1280-2R4YTR-ND/1969990; Price: 0.7737; Device Package: Nonstandard; Series: SRR1280; Inductance: 2.4uH; Current Rating: 9.2A; Operating Temperature: -40C ~ 125C
footprint BOURNS SRR1280
pins: 1, 2

## SRR1280-4R7Y
designator L?
FIXED IND 4.7UH 8.2A 15.5 MOHM; Manufacturer: Bourns Inc.; Type: Wirewound; Material - Core: Ferrite; Tolerance: 30%; Current - Saturation: 8.8A; Shielding: Shielded; DC Resistance (DCR): 15.5 mOhm Max; Q @ Freq: 22 @ 7.96MHz; Frequency - Self Resonant: 30MHz; Value: 4.7uH; Part Number: SRR1280-4R7Y; PartId: 16188; Supplier 1: Digi-Key; Supplier Part Number 1: SRR1280-4R7YCT-ND; ComponentLink1Description: Datasheet; ComponentLink1URL: http://www.bourns.com/docs/Product-Datasheets/SRR1280.pdf; ComponentLink2Description: Digi-Key Listing; ComponentLink2URL: https://www.digikey.com/product-detail/en/bourns-inc/SRR1280-4R7Y/SRR1280-4R7YCT-ND/2127446; Price: 0.99; Device Package: Nonstandard; Series: SRR1280; Inductance: 4.7uH; Current Rating: 8.2A; Operating Temperature: -40C ~ 125C
footprint BOURNS SRR1280
pins: 1, 2

## SRR1280-6R8Y
designator L?
FIXED IND 6.8UH 7.6A 18.5 MOHM; Manufacturer: Bourns Inc.; Type: Wirewound; Material - Core: Ferrite; Tolerance: 30%; Current - Saturation: 8A; Shielding: Shielded; DC Resistance (DCR): 18.5 mOhm Max; Q @ Freq: 20 @ 7.96MHz; Frequency - Self Resonant: 22MHz; Value: 6.8uH; Part Number: SRR1280-6R8Y; PartId: 16190; Supplier 1: Digi-Key; Supplier Part Number 1: SRR1280-6R8YCT-ND; ComponentLink1Description: Datasheet; ComponentLink1URL: http://www.bourns.com/docs/Product-Datasheets/SRR1280.pdf; ComponentLink2Description: Digi-Key Listing; ComponentLink2URL: https://www.digikey.com/product-detail/en/bourns-inc/SRR1280-6R8Y/SRR1280-6R8YCT-ND/3986771; Price: 0.99; Device Package: Nonstandard; Series: SRR1280; Inductance: 6.8uH; Current Rating: 7.6A; Operating Temperature: -40C ~ 125C
footprint BOURNS SRR1280
pins: 1, 2

## SRR1280-100M
designator L?
FIXED IND 10UH 6A 19.5 MOHM SMD; Manufacturer: Bourns Inc.; Type: Wirewound; Material - Core: Ferrite; Tolerance: 20%; Current - Saturation: 6.3A; Shielding: Shielded; DC Resistance (DCR): 19.5 mOhm Max; Q @ Freq: 24 @ 2.52MHz; Frequency - Self Resonant: 17MHz; Value: 10uH; Part Number: SRR1280-100M; PartId: 15712; Supplier 1: Digi-Key; Supplier Part Number 1: SRR1280-100MTR-ND; ComponentLink1Description: Datasheet; ComponentLink1URL: http://www.bourns.com/docs/Product-Datasheets/SRR1280.pdf; ComponentLink2Description: Digi-Key Listing; ComponentLink2URL: https://www.digikey.com/product-detail/en/bourns-inc/SRR1280-100M/SRR1280-100MTR-ND/1969992; Price: 0.7737; Device Package: Nonstandard; Series: SRR1280; Inductance: 10uH; Current Rating: 6A; Operating Temperature: -40C ~ 125C
footprint BOURNS SRR1280
pins: 1, 2

## SRR1280-102K
designator L?
FIXED IND 1MH 680MA 1.7 OHM SMD; Manufacturer: Bourns Inc.; Type: Wirewound; Material - Core: Ferrite; Tolerance: 10%; Current - Saturation: 800mA; Shielding: Shielded; DC Resistance (DCR): 1.7 Ohm Max; Q @ Freq: 40 @ 252kHz; Frequency - Self Resonant: 1.3MHz; Value: 1mH; Part Number: SRR1280-102K; PartId: 16193; Supplier 1: Digi-Key; Supplier Part Number 1: SRR1280-102KCT-ND; ComponentLink1Description: Datasheet; ComponentLink1URL: http://www.bourns.com/docs/Product-Datasheets/SRR1280.pdf; ComponentLink2Description: Digi-Key Listing; ComponentLink2URL: https://www.digikey.com/product-detail/en/bourns-inc/SRR1280-102K/SRR1280-102KCT-ND/2127428; Price: 0.99; Device Package: Nonstandard; Series: SRR1280; Inductance: 1mH; Current Rating: 680mA; Operating Temperature: -40C ~ 125C
footprint BOURNS SRR1280
pins: 1, 2

## SRR1280-120M
designator L?
FIXED IND 12UH 5.6A 28 MOHM SMD; Manufacturer: Bourns Inc.; Type: Wirewound; Material - Core: Ferrite; Tolerance: 20%; Current - Saturation: 6.6A; Shielding: Shielded; DC Resistance (DCR): 28 mOhm Max; Q @ Freq: 26 @ 2.52MHz; Frequency - Self Resonant: 15MHz; Value: 12uH; Part Number: SRR1280-120M; PartId: 15719; Supplier 1: Digi-Key; Supplier Part Number 1: SRR1280-120MTR-ND; ComponentLink1Description: Datasheet; ComponentLink1URL: http://www.bourns.com/docs/Product-Datasheets/SRR1280.pdf; ComponentLink2Description: Digi-Key Listing; ComponentLink2URL: https://www.digikey.com/product-detail/en/bourns-inc/SRR1280-120M/SRR1280-120MTR-ND/1969993; Price: 0.7737; Device Package: Nonstandard; Series: SRR1280; Inductance: 12uH; Current Rating: 5.6A; Operating Temperature: -40C ~ 125C
footprint BOURNS SRR1280
pins: 1, 2

## SRR1280-121K
designator L?
FIXED IND 120UH 1.95A 200 MOHM; Manufacturer: Bourns Inc.; Type: Wirewound; Material - Core: Ferrite; Tolerance: 10%; Shielding: Shielded; DC Resistance (DCR): 200 mOhm Max; Q @ Freq: 16 @ 796kHz; Frequency - Self Resonant: 4.3MHz; Value: 120uH; Part Number: SRR1280-121K; PartId: 15721; Supplier 1: Digi-Key; Supplier Part Number 1: SRR1280-121KTR-ND; ComponentLink1Description: Datasheet; ComponentLink1URL: http://www.bourns.com/docs/Product-Datasheets/SRR1280.pdf; ComponentLink2Description: Digi-Key Listing; ComponentLink2URL: https://www.digikey.com/product-detail/en/bourns-inc/SRR1280-121K/SRR1280-121KTR-ND/1970005; Price: 0.7737; Device Package: Nonstandard; Series: SRR1280; Inductance: 120uH; Current Rating: 1.95A; Current - Saturation: 1.95A; Operating Temperature: -40C ~ 125C
footprint BOURNS SRR1280
pins: 1, 2

## SRR1280-150M
designator L?
FIXED IND 15UH 5.2A 28.5 MOHM; Manufacturer: Bourns Inc.; Type: Wirewound; Material - Core: Ferrite; Tolerance: 20%; Current - Saturation: 5A; Shielding: Shielded; DC Resistance (DCR): 28.5 mOhm Max; Q @ Freq: 26 @ 2.52MHz; Frequency - Self Resonant: 13MHz; Value: 15uH; Part Number: SRR1280-150M; PartId: 15713; Supplier 1: Digi-Key; Supplier Part Number 1: SRR1280-150MTR-ND; ComponentLink1Description: Datasheet; ComponentLink1URL: http://www.bourns.com/docs/Product-Datasheets/SRR1280.pdf; ComponentLink2Description: Digi-Key Listing; ComponentLink2URL: https://www.digikey.com/product-detail/en/bourns-inc/SRR1280-150M/SRR1280-150MTR-ND/1969994; Price: 0.7737; Device Package: Nonstandard; Series: SRR1280; Inductance: 15uH; Current Rating: 5.2A; Operating Temperature: -40C ~ 125C
footprint BOURNS SRR1280
pins: 1, 2

## SRR1280-151K
designator L?
FIXED IND 150UH 1.85A 270 MOHM; Manufacturer: Bourns Inc.; Type: Wirewound; Material - Core: Ferrite; Tolerance: 10%; Current - Saturation: 1.9A; Shielding: Shielded; DC Resistance (DCR): 270 mOhm Max; Q @ Freq: 24 @ 796kHz; Frequency - Self Resonant: 4.1MHz; Value: 150uH; Part Number: SRR1280-151K; PartId: 15715; Supplier 1: Digi-Key; Supplier Part Number 1: SRR1280-151KTR-ND; ComponentLink1Description: Datasheet; ComponentLink1URL: http://www.bourns.com/docs/Product-Datasheets/SRR1280.pdf; ComponentLink2Description: Digi-Key Listing; ComponentLink2URL: https://www.digikey.com/product-detail/en/bourns-inc/SRR1280-151K/SRR1280-151KTR-ND/1970006; Price: 0.7737; Device Package: Nonstandard; Series: SRR1280; Inductance: 150uH; Current Rating: 1.85A; Operating Temperature: -40C ~ 125C
footprint BOURNS SRR1280
pins: 1, 2

## SRR1280-180M
designator L?
FIXED IND 18UH 4.8A 35 MOHM SMD; Manufacturer: Bourns Inc.; Type: Wirewound; Material - Core: Ferrite; Tolerance: 20%; Current - Saturation: 4.6A; Shielding: Shielded; DC Resistance (DCR): 35 mOhm Max; Q @ Freq: 24 @ 2.52MHz; Frequency - Self Resonant: 12MHz; Value: 18uH; Part Number: SRR1280-180M; PartId: 16191; Supplier 1: Digi-Key; Supplier Part Number 1: SRR1280-180MCT-ND; ComponentLink1Description: Datasheet; ComponentLink1URL: http://www.bourns.com/docs/Product-Datasheets/SRR1280.pdf; ComponentLink2Description: Digi-Key Listing; ComponentLink2URL: https://www.digikey.com/product-detail/en/bourns-inc/SRR1280-180M/SRR1280-180MCT-ND/2127433; Price: 0.99; Device Package: Nonstandard; Series: SRR1280; Inductance: 18uH; Current Rating: 4.8A; Operating Temperature: -40C ~ 125C
footprint BOURNS SRR1280
pins: 1, 2

## SRR1280-181K
designator L?
FIXED IND 180UH 1.75A 300 MOHM; Manufacturer: Bourns Inc.; Type: Wirewound; Material - Core: Ferrite; Tolerance: 10%; Current - Saturation: 1.88A; Shielding: Shielded; DC Resistance (DCR): 300 mOhm Max; Q @ Freq: 24 @ 796kHz; Frequency - Self Resonant: 4MHz; Value: 180uH; Part Number: SRR1280-181K; PartId: 15717; Supplier 1: Digi-Key; Supplier Part Number 1: SRR1280-181KTR-ND; ComponentLink1Description: Datasheet; ComponentLink1URL: http://www.bourns.com/docs/Product-Datasheets/SRR1280.pdf; ComponentLink2Description: Digi-Key Listing; ComponentLink2URL: https://www.digikey.com/product-detail/en/bourns-inc/SRR1280-181K/SRR1280-181KTR-ND/1970007; Price: 0.7737; Device Package: Nonstandard; Series: SRR1280; Inductance: 180uH; Current Rating: 1.75A; Operating Temperature: -40C ~ 125C
footprint BOURNS SRR1280
pins: 1, 2

## SRR1280-220M
designator L?
FIXED IND 22UH 4.3A 38.6 MOHM; Manufacturer: Bourns Inc.; Type: Wirewound; Material - Core: Ferrite; Tolerance: 20%; Current - Saturation: 4.1A; Shielding: Shielded; DC Resistance (DCR): 38.6 mOhm Max; Q @ Freq: 20 @ 2.52MHz; Frequency - Self Resonant: 11MHz; Value: 22uH; Part Number: SRR1280-220M; PartId: 15714; Supplier 1: Digi-Key; Supplier Part Number 1: SRR1280-220MTR-ND; ComponentLink1Description: Datasheet; ComponentLink1URL: http://www.bourns.com/docs/Product-Datasheets/SRR1280.pdf; ComponentLink2Description: Digi-Key Listing; ComponentLink2URL: https://www.digikey.com/product-detail/en/bourns-inc/SRR1280-220M/SRR1280-220MTR-ND/1969996; Price: 0.7737; Device Package: Nonstandard; Series: SRR1280; Inductance: 22uH; Current Rating: 4.3A; Operating Temperature: -40C ~ 125C
footprint BOURNS SRR1280
pins: 1, 2

## SRR1280-221K
designator L?
FIXED IND 220UH 1.6A 400 MOHM; Manufacturer: Bourns Inc.; Type: Wirewound; Material - Core: Ferrite; Tolerance: 10%; Current - Saturation: 1.7A; Shielding: Shielded; DC Resistance (DCR): 400 mOhm Max; Q @ Freq: 24 @ 796kHz; Frequency - Self Resonant: 3.4MHz; Value: 220uH; Part Number: SRR1280-221K; PartId: 16187; Supplier 1: Digi-Key; Supplier Part Number 1: SRR1280-221KLCT-ND; ComponentLink1Description: Datasheet; ComponentLink1URL: http://www.bourns.com/docs/Product-Datasheets/SRR1280.pdf; ComponentLink2Description: Digi-Key Listing; ComponentLink2URL: https://www.digikey.com/product-detail/en/bourns-inc/SRR1280-221K/SRR1280-221KLCT-ND/2127436; Price: 0.99; Device Package: Nonstandard; Series: SRR1280; Inductance: 220uH; Current Rating: 1.6A; Operating Temperature: -40C ~ 125C
footprint BOURNS SRR1280
pins: 1, 2

## SRR1280-270M
designator L?
FIXED IND 27UH 3.9A 52 MOHM SMD; Manufacturer: Bourns Inc.; Type: Wirewound; Material - Core: Ferrite; Tolerance: 20%; Current - Saturation: 3.7A; Shielding: Shielded; DC Resistance (DCR): 52 mOhm Max; Q @ Freq: 26 @ 2.52MHz; Frequency - Self Resonant: 10MHz; Value: 27uH; Part Number: SRR1280-270M; PartId: 15722; Supplier 1: Digi-Key; Supplier Part Number 1: SRR1280-270MTR-ND; ComponentLink1Description: Datasheet; ComponentLink1URL: http://www.bourns.com/docs/Product-Datasheets/SRR1280.pdf; ComponentLink2Description: Digi-Key Listing; ComponentLink2URL: https://www.digikey.com/product-detail/en/bourns-inc/SRR1280-270M/SRR1280-270MTR-ND/1969997; Price: 0.7737; Device Package: Nonstandard; Series: SRR1280; Inductance: 27uH; Current Rating: 3.9A; Operating Temperature: -40C ~ 125C
footprint BOURNS SRR1280
pins: 1, 2

## SRR1280-271K
designator L?
FIXED IND 270UH 1.2A 450 MOHM; Manufacturer: Bourns Inc.; Type: Wirewound; Material - Core: Ferrite; Tolerance: 10%; Current - Saturation: 1.6A; Shielding: Shielded; DC Resistance (DCR): 450 mOhm Max; Q @ Freq: 20 @ 796kHz; Frequency - Self Resonant: 3.1MHz; Value: 270uH; Part Number: SRR1280-271K; PartId: 15727; Supplier 1: Digi-Key; Supplier Part Number 1: SRR1280-271KTR-ND; ComponentLink1Description: Datasheet; ComponentLink1URL: http://www.bourns.com/docs/Product-Datasheets/SRR1280.pdf; ComponentLink2Description: Digi-Key Listing; ComponentLink2URL: https://www.digikey.com/product-detail/en/bourns-inc/SRR1280-271K/SRR1280-271KTR-ND/1970009; Price: 0.7737; Device Package: Nonstandard; Series: SRR1280; Inductance: 270uH; Current Rating: 1.2A; Operating Temperature: -40C ~ 125C
footprint BOURNS SRR1280
pins: 1, 2

## SRR1280-271V4K
designator L?
FIXED IND 270UH 1.2A 450 MOHM; Manufacturer: Bourns Inc.; Material - Core: Ferrite; Tolerance: 10%; Current - Saturation: 1.6A; Shielding: Shielded; DC Resistance (DCR): 450 mOhm Max; Q @ Freq: 20 @ 796kHz; Frequency - Self Resonant: 3.1MHz; Value: 270uH; Part Number: SRR1280-271V4K; PartId: 16194; Supplier 1: Digi-Key; Supplier Part Number 1: SRR1280-271V4KCT-ND; ComponentLink1Description: Datasheet; ComponentLink1URL: //media.digikey.com/pdf/Data%20Sheets/Bourns%20PDFs/SRR1280-271V4K_Spec.pdf; ComponentLink2Description: Digi-Key Listing; ComponentLink2URL: https://www.digikey.com/product-detail/en/bourns-inc/SRR1280-271V4K/SRR1280-271V4KCT-ND/4211451; Price: 1.06; Device Package: Nonstandard; Series: SRR1280; Inductance: 270uH; Current Rating: 1.2A; Operating Temperature: -40C ~ 125C
footprint BOURNS SRR1280
pins: 1, 2

## SRR1280-330M
designator L?
FIXED IND 33UH 3.5A 57 MOHM SMD; Manufacturer: Bourns Inc.; Type: Wirewound; Material - Core: Ferrite; Tolerance: 20%; Current - Saturation: 3.3A; Shielding: Shielded; DC Resistance (DCR): 57 mOhm Max; Q @ Freq: 28 @ 2.52MHz; Frequency - Self Resonant: 9.5MHz; Value: 33uH; Part Number: SRR1280-330M; PartId: 15710; Supplier 1: Digi-Key; Supplier Part Number 1: SRR1280-330MTR-ND; ComponentLink1Description: Datasheet; ComponentLink1URL: http://www.bourns.com/docs/Product-Datasheets/SRR1280.pdf; ComponentLink2Description: Digi-Key Listing; ComponentLink2URL: https://www.digikey.com/product-detail/en/bourns-inc/SRR1280-330M/SRR1280-330MTR-ND/1969998; Price: 0.7737; Device Package: Nonstandard; Series: SRR1280; Inductance: 33uH; Current Rating: 3.5A; Operating Temperature: -40C ~ 125C
footprint BOURNS SRR1280
pins: 1, 2

## SRR1280-331K
designator L?
FIXED IND 330UH 1.1A 600 MOHM; Manufacturer: Bourns Inc.; Type: Wirewound; Material - Core: Ferrite; Tolerance: 10%; Current - Saturation: 1.4A; Shielding: Shielded; DC Resistance (DCR): 600 mOhm Max; Q @ Freq: 18 @ 796kHz; Frequency - Self Resonant: 2.9MHz; Value: 330uH; Part Number: SRR1280-331K; PartId: 15725; Supplier 1: Digi-Key; Supplier Part Number 1: SRR1280-331KLTR-ND; ComponentLink1Description: Datasheet; ComponentLink1URL: http://www.bourns.com/docs/Product-Datasheets/SRR1280.pdf; ComponentLink2Description: Digi-Key Listing; ComponentLink2URL: https://www.digikey.com/product-detail/en/bourns-inc/SRR1280-331K/SRR1280-331KLTR-ND/1970010; Price: 0.7737; Device Package: Nonstandard; Series: SRR1280; Inductance: 330uH; Current Rating: 1.1A; Operating Temperature: -40C ~ 125C
footprint BOURNS SRR1280
pins: 1, 2

## SRR1280-390M
designator L?
FIXED IND 39UH 3.2A 70 MOHM SMD; Manufacturer: Bourns Inc.; Type: Wirewound; Material - Core: Ferrite; Tolerance: 20%; Current - Saturation: 3.1A; Shielding: Shielded; DC Resistance (DCR): 70 mOhm Max; Q @ Freq: 24 @ 2.52MHz; Frequency - Self Resonant: 8.5MHz; Value: 39uH; Part Number: SRR1280-390M; PartId: 16186; Supplier 1: Digi-Key; Supplier Part Number 1: SRR1280-390MCT-ND; ComponentLink1Description: Datasheet; ComponentLink1URL: http://www.bourns.com/docs/Product-Datasheets/SRR1280.pdf; ComponentLink2Description: Digi-Key Listing; ComponentLink2URL: https://www.digikey.com/product-detail/en/bourns-inc/SRR1280-390M/SRR1280-390MCT-ND/2127442; Price: 0.99; Device Package: Nonstandard; Series: SRR1280; Inductance: 39uH; Current Rating: 3.2A; Operating Temperature: -40C ~ 125C
footprint BOURNS SRR1280
pins: 1, 2